# EAGLE library part THAT380 (library meng)
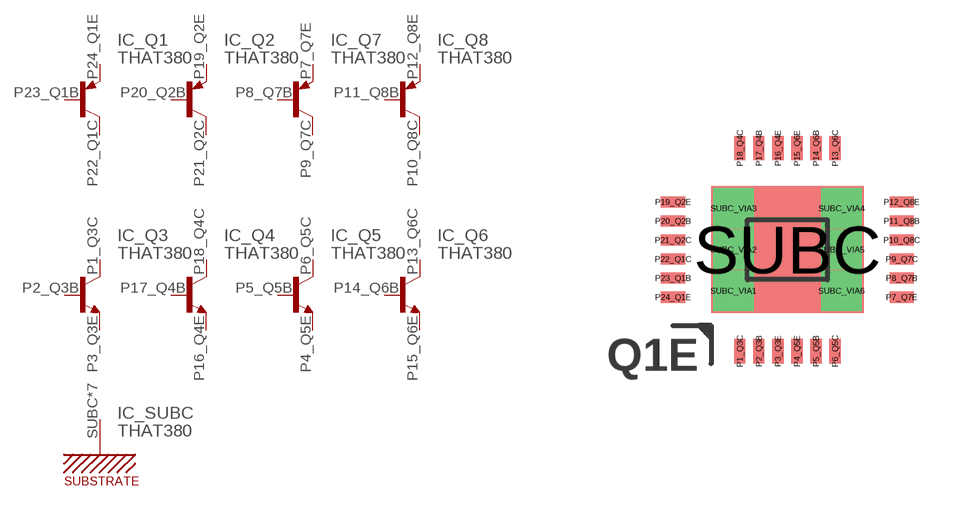
[diagram p16: symbol with the pads of THAT_380G_WIREBOND; footprint THAT_380G_WIREBOND]

Designator prefix IC; gates _Q3=NPN _Q4=NPN _Q5=NPN _Q6=NPN _Q1=PNP _Q2=PNP _Q7=PNP _Q8=PNP _SUBC=SUBC

## THAT380 (VALUE: THAT380G14)  [THAT_380G_WIREBOND]
P1_Q3C  _Q3:C  pas
P2_Q3B  _Q3:B  pas
P3_Q3E  _Q3:E  pas
P4_Q5E  _Q5:E  pas
P5_Q5B  _Q5:B  pas
P6_Q5C  _Q5:C  pas
P7_Q7E  _Q7:E  pas
P8_Q7B  _Q7:B  pas
P9_Q7C  _Q7:C  pas
P10_Q8C  _Q8:C  pas
P11_Q8B  _Q8:B  pas
P12_Q8E  _Q8:E  pas
P13_Q6C  _Q6:C  pas
P14_Q6B  _Q6:B  pas
P15_Q6E  _Q6:E  pas
P16_Q4E  _Q4:E  pas
P17_Q4B  _Q4:B  pas
P18_Q4C  _Q4:C  pas
P19_Q2E  _Q2:E  pas
P20_Q2B  _Q2:B  pas
P21_Q2C  _Q2:C  pas
P22_Q1C  _Q1:C  pas
P23_Q1B  _Q1:B  pas
P24_Q1E  _Q1:E  pas
SUBC  _SUBC:SUBC
SUBC_VIA1  _SUBC:SUBC
SUBC_VIA2  _SUBC:SUBC
SUBC_VIA3  _SUBC:SUBC
SUBC_VIA4  _SUBC:SUBC
SUBC_VIA5  _SUBC:SUBC
SUBC_VIA6  _SUBC:SUBC

## Footprint THAT_380G_WIREBOND (pad centres in mm)
smd 0.279 x 0.61: P1_Q3C -1.191,-2.54; P2_Q3B -0.714,-2.54; P3_Q3E -0.238,-2.54; P4_Q5E 0.238,-2.54; P5_Q5B 0.714,-2.54; P6_Q5C 1.191,-2.54; P13_Q6C 1.191,2.54; P14_Q6B 0.714,2.54; P15_Q6E 0.238,2.54; P16_Q4E -0.238,2.54; P17_Q4B -0.714,2.54; P18_Q4C -1.191,2.54
smd 0.61 x 0.279: P7_Q7E 2.857,-1.191; P8_Q7B 2.857,-0.714; P9_Q7C 2.857,-0.238; P10_Q8C 2.857,0.238; P11_Q8B 2.857,0.714; P12_Q8E 2.857,1.191; P19_Q2E -2.857,1.191; P20_Q2B -2.857,0.714; P21_Q2C -2.857,0.238; P22_Q1C -2.857,-0.238; P23_Q1B -2.857,-0.714; P24_Q1E -2.857,-1.191
smd 3.81 x 3.175: SUBC 0,0
drill 0.5 square: SUBC_VIA1 -1.349,-1.032; SUBC_VIA2 -1.349,0; SUBC_VIA3 -1.349,1.032; SUBC_VIA4 1.349,1.032; SUBC_VIA5 1.349,0; SUBC_VIA6 1.349,-1.032